# Altium footprint library ST-Microelectronics Footprints.PcbLib: 320 footprints (part 4 of 20)
Each footprint in its own frame and in the unit in brackets; x right, y up, seen from the top. Pads: shape width x height; smd on the part's side, far side on the other; paste and mask are expansions set on the pad; w line width, h text height; cw(c..) or ccw(c..) is an arc to the next point about the centre after c.
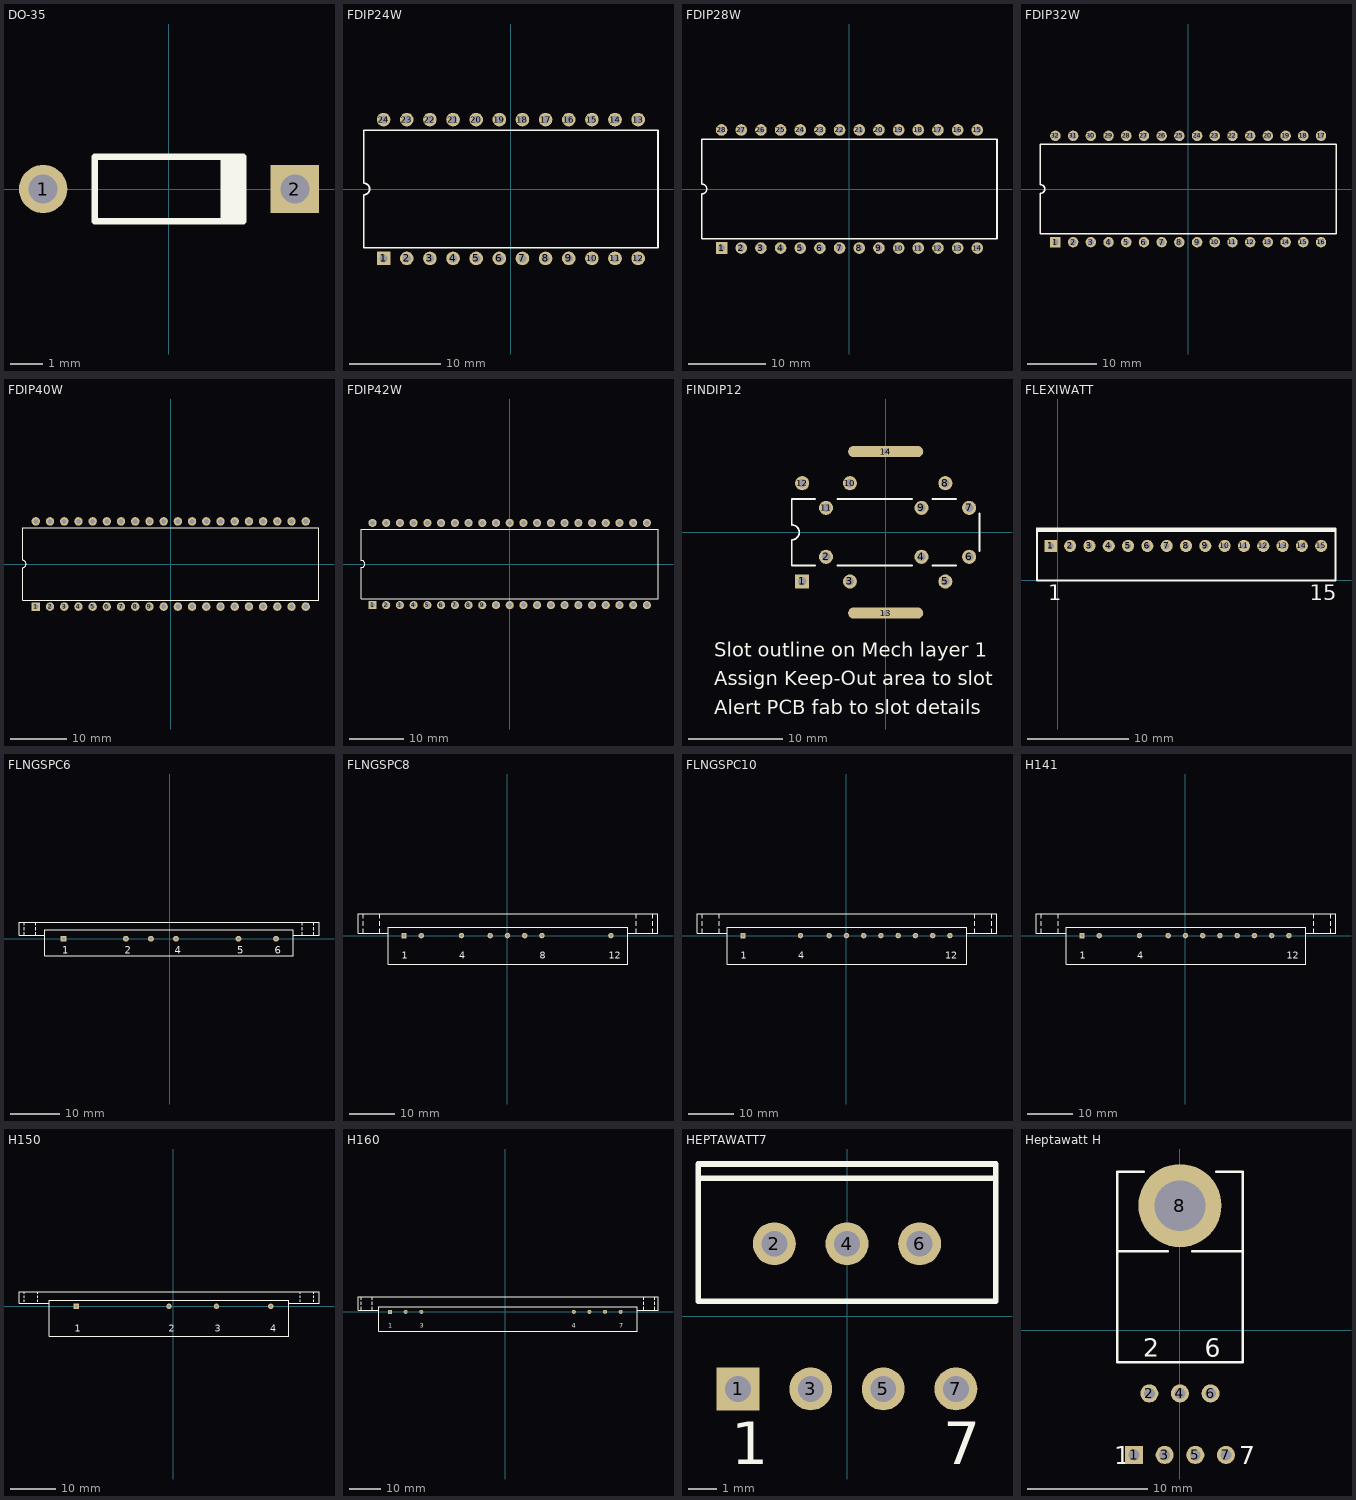
[diagram p3: the footprints below, top view; thin cyan lines are the x and y axes]

## DO-35 [mm] "Diode, Axial; Body 4.6 x 2 mm (LxDia. max), Lead Dia. 0.53 mm (max)"
height 2
pads (2):
  round 1.5 hole 0.9: 1(-3.9,0)
  rect 1.5x1.5 hole 0.9: 2(3.9,0)
Top Overlay:
  rectangle: 1.6,-1 2.4,1
  lines w0.2: 2.3,-1 -2.3,-1 -2.3,1 2.3,1

## FDIP24W [mm] "Ceramic Frit-seal DIP, Window; 24 Leads; Row Spacing 15.24 mm; Pitch 2.54 mm"
height 5.71
pads (24):
  rect 1.5x1.5 hole 0.9: 1(-13.97,-7.62)
  round 1.5 hole 0.9: 2(-11.43,-7.62) 3(-8.89,-7.62) 4(-6.35,-7.62) 5(-3.81,-7.62) 6(-1.27,-7.62) 7(1.27,-7.62) 8(3.81,-7.62) 9(6.35,-7.62) 10(8.89,-7.62) 11(11.43,-7.62) 12(13.97,-7.62) 13(13.97,7.62) 14(11.43,7.62) 15(8.89,7.62) 16(6.35,7.62) 17(3.81,7.62) 18(1.27,7.62) 19(-1.27,7.62) 20(-3.81,7.62) 21(-6.35,7.62) 22(-8.89,7.62) 23(-11.43,7.62) 24(-13.97,7.62)
Top Overlay:
  lines w0.2: -16.15,-6.45 -16.15,-0.635 ccw(c-16.15,0) -16.15,0.635 -16.15,6.45 16.15,6.45 16.15,-6.45 -16.15,-6.45

## FDIP28W [mm] "Ceramic Frit-seal DIP, Window; 28 Leads; Row Spacing 15.24 mm; Pitch 2.54 mm"
height 5.71
pads (28):
  rect 1.5x1.5 hole 0.9: 1(-16.51,-7.62)
  round 1.5 hole 0.9: 2(-13.97,-7.62) 3(-11.43,-7.62) 4(-8.89,-7.62) 5(-6.35,-7.62) 6(-3.81,-7.62) 7(-1.27,-7.62) 8(1.27,-7.62) 9(3.81,-7.62) 10(6.35,-7.62) 11(8.89,-7.62) 12(11.43,-7.62) 13(13.97,-7.62) 14(16.51,-7.62) 15(16.51,7.62) 16(13.97,7.62) 17(11.43,7.62) 18(8.89,7.62) 19(6.35,7.62) 20(3.81,7.62) 21(1.27,7.62) 22(-1.27,7.62) 23(-3.81,7.62) 24(-6.35,7.62) 25(-8.89,7.62) 26(-11.43,7.62) 27(-13.97,7.62) 28(-16.51,7.62)
Top Overlay:
  lines w0.2: -19.05,-6.45 19.05,-6.45 19.05,6.45 -19.05,6.45 -19.05,0.635 cw(c-19.05,0) -19.05,-0.635 -19.05,-6.45

## FDIP32W [mm] "Ceramic Frit-seal DIP, Window; 32 Leads; Row Spacing 15.24 mm; Pitch 2.54 mm"
height 5.72
pads (32):
  rect 1.5x1.5 hole 0.9: 1(-19.05,-7.62)
  round 1.5 hole 0.9: 2(-16.51,-7.62) 3(-13.97,-7.62) 4(-11.43,-7.62) 5(-8.89,-7.62) 6(-6.35,-7.62) 7(-3.81,-7.62) 8(-1.27,-7.62) 9(1.27,-7.62) 10(3.81,-7.62) 11(6.35,-7.62) 12(8.89,-7.62) 13(11.43,-7.62) 14(13.97,-7.62) 15(16.51,-7.62) 16(19.05,-7.62) 17(19.05,7.62) 18(16.51,7.62) 19(13.97,7.62) 20(11.43,7.62) 21(8.89,7.62) 22(6.35,7.62) 23(3.81,7.62) 24(1.27,7.62) 25(-1.27,7.62) 26(-3.81,7.62) 27(-6.35,7.62) 28(-8.89,7.62) 29(-11.43,7.62) 30(-13.97,7.62) 31(-16.51,7.62) 32(-19.05,7.62)
Top Overlay:
  lines w0.2: -21.2,-6.45 -21.2,-0.635 ccw(c-21.2,0) -21.2,0.635 -21.2,6.45 21.2,6.45 21.2,-6.45 -21.2,-6.45

## FDIP40W [mm] "Ceramic Frit-seal DIP, Window; 40 Leads; Row Spacing 15.24 mm; Pitch 2.54 mm"
height 5.72
pads (40):
  rect 1.5x1.5 hole 0.9: 1(-24.13,-7.62)
  round 1.5 hole 0.9: 2(-21.59,-7.62) 3(-19.05,-7.62) 4(-16.51,-7.62) 5(-13.97,-7.62) 6(-11.43,-7.62) 7(-8.89,-7.62) 8(-6.35,-7.62) 9(-3.81,-7.62) 10(-1.27,-7.62) 11(1.27,-7.62) 12(3.81,-7.62) 13(6.35,-7.62) 14(8.89,-7.62) 15(11.43,-7.62) 16(13.97,-7.62) 17(16.51,-7.62) 18(19.05,-7.62) 19(21.59,-7.62) 20(24.13,-7.62) 21(24.13,7.62) 22(21.59,7.62) 23(19.05,7.62) 24(16.51,7.62) 25(13.97,7.62) 26(11.43,7.62) 27(8.89,7.62) 28(6.35,7.62) 29(3.81,7.62) 30(1.27,7.62) 31(-1.27,7.62) 32(-3.81,7.62) 33(-6.35,7.62) 34(-8.89,7.62) 35(-11.43,7.62) 36(-13.97,7.62) 37(-16.51,7.62) 38(-19.05,7.62) 39(-21.59,7.62) 40(-24.13,7.62)
Top Overlay:
  lines w0.2: -26.5,-6.45 26.5,-6.45 26.5,6.45 -26.5,6.45 -26.5,0.635 cw(c-26.5,0) -26.5,-0.635 -26.5,-6.45

## FDIP42W [mm] "Ceramic Frit-seal DIP, Window; 42 Leads; Row Spacing 15.24 mm; Pitch 2.54 mm"
height 5.72
pads (42):
  rect 1.5x1.5 hole 0.9: 1(-25.4,-7.62)
  round 1.5 hole 0.9: 2(-22.86,-7.62) 3(-20.32,-7.62) 4(-17.78,-7.62) 5(-15.24,-7.62) 6(-12.7,-7.62) 7(-10.16,-7.62) 8(-7.62,-7.62) 9(-5.08,-7.62) 10(-2.54,-7.62) 11(0,-7.62) 12(2.54,-7.62) 13(5.08,-7.62) 14(7.62,-7.62) 15(10.16,-7.62) 16(12.7,-7.62) 17(15.24,-7.62) 18(17.78,-7.62) 19(20.32,-7.62) 20(22.86,-7.62) 21(25.4,-7.62) 22(25.4,7.62) 23(22.86,7.62) 24(20.32,7.62) 25(17.78,7.62) 26(15.24,7.62) 27(12.7,7.62) 28(10.16,7.62) 29(7.62,7.62) 30(5.08,7.62) 31(2.54,7.62) 32(0,7.62) 33(-2.54,7.62) 34(-5.08,7.62) 35(-7.62,7.62) 36(-10.16,7.62) 37(-12.7,7.62) 38(-15.24,7.62) 39(-17.78,7.62) 40(-20.32,7.62) 41(-22.86,7.62) 42(-25.4,7.62)
Top Overlay:
  lines w0.2: -27.45,-6.45 -27.45,-0.635 ccw(c-27.45,0) -27.45,0.635 -27.45,6.45 27.45,6.45 27.45,-6.45 -27.45,-6.45

## FINDIP12 [mm] "QUIP; 12 Leads, in two Staggered Rows, plus 2 Heatsink tabs"
height 5.8
pads (14):
  rect 1.5x1.5 hole 0.9: 1(-8.89,-5.23)
  round 1.5 hole 0.9: 2(-6.35,-2.605) 3(-3.81,-5.23) 4(3.81,-2.605) 5(6.35,-5.23) 6(8.89,-2.605) 7(8.89,2.605) 8(6.35,5.23) 9(3.81,2.605) 10(-3.81,5.23) 11(-6.35,2.605) 12(-8.89,5.23)
  oval 8x1.2 hole 0.6: 13(0,-8.6) 14(0,8.6)
Top Overlay:
  lines w0.2: -7.5,-3.55 -10,-3.55 -10,-0.8 ccw(c-10,0) -10,0.8 -10,3.55 -7.5,3.55 ; -5.15,-3.55 2.8,-3.55 ; -5.15,3.55 2.8,3.55 ; 5,-3.55 7.5,-3.55 ; 5,3.55 7.5,3.55 ; 10,-2 10,2
  text "Slot outline on Mech layer 1" at -18.24,-13.25 h1.5
  text "Assign Keep-Out area to slot" at -18.24,-16.298 h1.5
  text "Alert PCB fab to slot details" at -18.24,-19.346 h1.5
Mechanical 1:
  lines w0.2: -3.3,-8.9 cw(c-3.3,-8.6) -3.3,-8.3 3.3,-8.3 cw(c3.3,-8.6) 3.3,-8.9 -3.3,-8.9 ; -3.3,8.3 cw(c-3.3,8.6) -3.3,8.9 3.3,8.9 cw(c3.3,8.6) 3.3,8.3 -3.3,8.3

## FLEXIWATT [mm] "SIP; 15 Leads; Body 29 x 4.6 mm (LxW typ); Pitch 1.91 mm"
height 17.1
pads (15):
  rect 1.2x1.2 hole 0.6: 1(-0.67,3.4)
  round 1.2 hole 0.6: 2(1.24,3.4) 3(3.15,3.4) 4(5.06,3.4) 5(6.97,3.4) 6(8.88,3.4) 7(10.79,3.4) 8(12.7,3.4) 9(14.61,3.4) 10(16.52,3.4) 11(18.43,3.4) 12(20.34,3.4) 13(22.25,3.4) 14(24.16,3.4) 15(26.07,3.4)
Top Overlay:
  rectangle: -2.135,4.8 27.535,5.2
  lines w0.2: -2.035,5.1 -2.035,0 27.465,0 27.465,5.1
  text "1" at -0.92,-1.975 h1.5
  text "15" at 24.945,-1.975 h1.5

## FLNGSPC6 [mm] "Rectangular Flange Mount, Thru-Hole; 6 Leads; Pitch 5.08 mm"
height 14.1
pads (6):
  rect 1.2x1.2 hole 0.6: 1(-21.59,0)
  round 1.2 hole 0.6: 2(-8.89,0) 3(-3.81,0) 4(1.27,0) 5(13.97,0) 6(21.59,0)
Top Overlay:
  lines w0.2: -29.55,0.75 -29.55,1.35 ; -29.55,1.75 -29.55,2.35 ; -29.55,2.75 -29.55,3.35 ; -27.15,0.75 -27.15,1.35 ; -27.15,1.75 -27.15,2.35 ; -27.15,2.75 -27.15,3.35 ; -25.385,0.75 -30.585,0.75 -30.585,3.35 30.315,3.35 30.315,0.75 25.115,0.75 ; 26.88,0.75 26.88,1.35 ; 26.88,1.75 26.88,2.35 ; 26.88,2.75 26.88,3.35 ; 29.28,0.75 29.28,1.35 ; 29.28,1.75 29.28,2.35 ; 29.28,2.75 29.28,3.35 ; -25.385,-3.45 25.115,-3.45 25.115,1.85 -25.385,1.85 -25.385,-3.45
  text "1" at -21.844,-3.048 h1.5
  text "2" at -9.144,-3.048 h1.5
  text "4" at 1.016,-3.048 h1.5
  text "5" at 13.716,-3.048 h1.5
  text "6" at 21.336,-3.048 h1.5

## FLNGSPC8 [mm] "Rectangular Flange Mount, Thru-Hole; 12 Leads (4 Absent); Pitch 3.81 mm"
height 22.3
pads (8):
  rect 1.2x1.2 hole 0.6: 1(-22.86,0)
  round 1.2 hole 0.6: 2(-19.05,0) 4(-10.16,0) 5(-3.81,0) 6(0,0) 7(3.81,0) 8(7.62,0) 12(22.86,0)
Top Overlay:
  lines w0.2: -31.88,0.55 -31.88,1.55 ; -31.88,2.2 -31.88,3.2 ; -31.88,3.85 -31.88,4.85 ; -28.18,0.55 -28.18,1.55 ; -28.18,2.2 -28.18,3.2 ; -28.18,3.85 -28.18,4.85 ; -26.38,0.55 -33.03,0.55 -33.03,4.85 33.27,4.85 33.27,0.55 26.62,0.55 ; 28.42,0.55 28.42,1.55 ; 28.42,2.2 28.42,3.2 ; 28.42,3.85 28.42,4.85 ; 32.12,0.55 32.12,1.55 ; 32.12,2.2 32.12,3.2 ; 32.12,3.85 32.12,4.85 ; -26.38,-6.35 -26.38,1.85 26.62,1.85 26.62,-6.35 -26.38,-6.35
  text "1" at -23.368,-5.08 h1.5
  text "8" at 7.112,-5.08 h1.5
  text "12" at 22.352,-5.08 h1.5
  text "4" at -10.668,-5.08 h1.5

## FLNGSPC10 [mm] "Rectangular Flange Mount, Thru-Hole; 12 Leads (2 Absent); Pitch 3.81 mm"
height 22.3
pads (10):
  rect 1.2x1.2 hole 0.6: 1(-22.86,0)
  round 1.2 hole 0.6: 4(-10.16,0) 5(-3.81,0) 6(0,0) 7(3.81,0) 8(7.62,0) 9(11.43,0) 10(15.24,0) 11(19.05,0) 12(22.86,0)
Top Overlay:
  lines w0.2: -31.88,0.55 -31.88,1.55 ; -31.88,2.2 -31.88,3.2 ; -31.88,3.85 -31.88,4.85 ; -28.13,0.55 -28.13,1.55 ; -28.13,2.2 -28.13,3.2 ; -28.13,3.85 -28.13,4.85 ; -26.38,0.55 -33.03,0.55 -33.03,4.85 33.27,4.85 33.27,0.55 26.62,0.55 ; 28.37,0.55 28.37,1.55 ; 28.37,2.2 28.37,3.2 ; 28.37,3.85 28.37,4.85 ; 32.12,0.55 32.12,1.55 ; 32.12,2.2 32.12,3.2 ; 32.12,3.85 32.12,4.85 ; -26.38,-6.35 -26.38,1.85 26.62,1.85 26.62,-6.35 -26.38,-6.35
  text "12" at 21.844,-5.08 h1.5
  text "4" at -10.668,-5.08 h1.5
  text "1" at -23.368,-5.08 h1.5

## H141 [mm] "Rectangular Flange Mount, Thru-Hole; 12 Leads (1 Absent); Pitch 3.81 mm"
height 22.3
pads (11):
  rect 1.2x1.2 hole 0.6: 1(-22.86,0)
  round 1.2 hole 0.6: 2(-19.05,0) 4(-10.16,0) 5(-3.81,0) 6(0,0) 7(3.81,0) 8(7.62,0) 9(11.43,0) 10(15.24,0) 11(19.05,0) 12(22.86,0)
Top Overlay:
  lines w0.2: -31.88,0.55 -31.88,1.55 ; -31.88,2.2 -31.88,3.2 ; -31.88,3.85 -31.88,4.85 ; -28.13,0.55 -28.13,1.55 ; -28.13,2.2 -28.13,3.2 ; -28.13,3.85 -28.13,4.85 ; -26.38,0.55 -33.03,0.55 -33.03,4.85 33.27,4.85 33.27,0.55 26.62,0.55 ; 28.37,0.55 28.37,1.55 ; 28.37,2.2 28.37,3.2 ; 28.37,3.85 28.37,4.85 ; 32.12,0.55 32.12,1.55 ; 32.12,2.2 32.12,3.2 ; 32.12,3.85 32.12,4.85 ; -26.38,-6.35 -26.38,1.85 26.62,1.85 26.62,-6.35 -26.38,-6.35
  text "12" at 22.352,-5.08 h1.5
  text "4" at -10.668,-5.08 h1.5
  text "1" at -23.368,-5.08 h1.5

## H150 [mm] "Rectangular Flange Mount, Thru-Hole; 4 Leads; Pitch 12 mm"
height 23.2
pads (4):
  rect 1.2x1.2 hole 0.6: 1(-21.5,0)
  round 1.2 hole 0.6: 2(-0.99,0) 3(9.5,0) 4(21.5,0)
Top Overlay:
  lines w0.2: -33.01,0.964 -33.01,1.464 ; -33.01,1.864 -33.01,2.364 ; -33.01,2.75 -33.01,3.25 ; -30.01,0.964 -30.01,1.464 ; -30.01,1.864 -30.01,2.364 ; -30.01,2.75 -30.01,3.25 ; -27.44,0.65 -34.14,0.65 -34.14,3.25 32.16,3.25 32.16,0.65 25.46,0.65 ; 28.03,0.964 28.03,1.464 ; 28.03,1.864 28.03,2.364 ; 28.03,2.75 28.03,3.25 ; 31.03,0.964 31.03,1.464 ; 31.03,1.864 31.03,2.364 ; 31.03,2.75 31.03,3.25 ; -27.44,-6.65 -27.44,1.35 25.46,1.35 25.46,-6.65 -27.44,-6.65
  text "1" at -21.844,-5.588 h1.5
  text "2" at -1.016,-5.588 h1.5
  text "3" at 9.144,-5.588 h1.5
  text "4" at 21.336,-5.588 h1.5

## H160 [mm] "Rectangular Flange Mount, Thru-Hole; 7 Leads; Pitch 5 mm"
height 25.7
pads (7):
  rect 1.3x1.3 hole 0.7: 1(-36.99,0)
  round 1.3 hole 0.7: 2(-31.99,0) 3(-26.99,0) 4(21.99,0) 5(26.99,0) 6(31.99,0) 7(36.99,0)
Top Overlay:
  lines w0.2: -46.3,0.65 -46.3,1.65 ; -46.3,2.25 -46.3,3.25 ; -46.3,3.85 -46.3,4.85 ; -42.78,0.65 -42.78,1.65 ; -42.78,2.25 -42.78,3.25 ; -42.78,3.85 -42.78,4.85 ; -40.705,0.55 -47.3,0.55 -47.3,4.85 49,4.85 49,0.55 42.395,0.55 ; 44.48,0.65 44.48,1.65 ; 44.48,2.25 44.48,3.25 ; 44.48,3.85 44.48,4.85 ; 48,0.65 48,1.65 ; 48,2.25 48,3.25 ; 48,3.85 48,4.85 ; -40.705,-6.25 -40.705,1.674 42.395,1.674 42.395,-6.25 -40.705,-6.25
  text "7" at 36.576,-5.08 h1.5
  text "4" at 21.336,-5.08 h1.5
  text "3" at -27.432,-5.08 h1.5
  text "1" at -37.592,-5.08 h1.5

## HEPTAWATT7 [mm] "TO, Thru-Hole, Vertical, Heatsink Mounted; 7 Bent Staggered Leads; Pitch 1.27 mm"
height 20.2
pads (7):
  rect 1.5x1.5 hole 0.9: 1(-3.81,-2.54)
  round 1.5 hole 0.9: 2(-2.54,2.54) 3(-1.27,-2.54) 4(0,2.54) 5(1.27,-2.54) 6(2.54,2.54) 7(3.81,-2.54)
Top Overlay:
  lines w0.2: -5.2,4.83 5.2,4.83 ; -5.2,0.53 -5.2,5.33 5.2,5.33 5.2,0.53 -5.2,0.53
  text "1" at -4.05,-5.165 h1.5
  text "7" at 3.37,-5.165 h1.5

## Heptawatt H [mm] "TO, Thru-Hole, Horizontal, Heatsink Mounted; 7 Bent Staggered Leads; Pitch 1.27 mm"
height 4.8
pads (8):
  rect 1.5x1.5 hole 0.9: 1(-3.81,-10.34)
  round 1.5 hole 0.9: 2(-2.54,-5.24) 3(-1.27,-10.34) 4(0,-5.24) 5(1.27,-10.34) 6(2.54,-5.24) 7(3.81,-10.34)
  round 6.9 hole 4.2: 8(0,10.34)
Top Overlay:
  lines w0.2: -5.2,6.54 -1,6.54 ; -3,13.14 -5.2,13.14 -5.2,-2.66 5.2,-2.66 5.2,13.14 3,13.14 ; 1,6.54 5.2,6.54
  text "1" at -5.435,-11.09 h1.5
  text "7" at 4.935,-11.09 h1.5
  text "6" at 2.04,-2.185 h1.5
  text "2" at -3.04,-2.185 h1.5